# EAGLE library part 74HC245 (library arno)
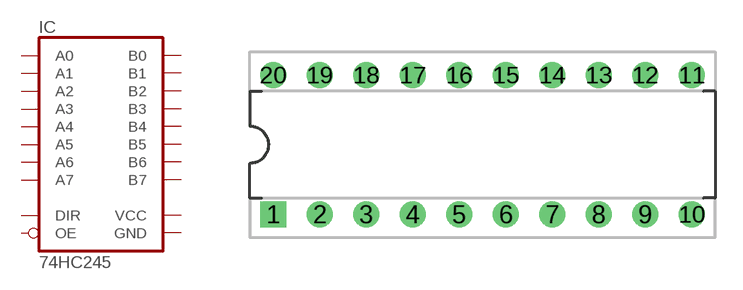
[diagram p9: symbol with the pads of SOCKET-DIL20; footprint SOCKET-DIL20]

Designator prefix IC

## 74HC245N  [SOCKET-DIL20]
1  DIR  in
2  A0
3  A1
4  A2
5  A3
6  A4
7  A5
8  A6
9  A7
10  GND
11  B7
12  B6
13  B5
14  B4
15  B3
16  B2
17  B1
18  B0
19  OE  in
20  VCC

## Footprint SOCKET-DIL20 (pad centres in mm)
DIL-20 Socket Based on DIL20 from 74xx-eu.lbr
drill 0.813 pad 1.422 square: 1 -11.43,-3.81
drill 0.813 pad 1.422: 2 -8.89,-3.81; 3 -6.35,-3.81; 4 -3.81,-3.81; 5 -1.27,-3.81; 6 1.27,-3.81; 7 3.81,-3.81; 8 6.35,-3.81; 9 8.89,-3.81; 10 11.43,-3.81; 11 11.43,3.81; 12 8.89,3.81; 13 6.35,3.81; 14 3.81,3.81; 15 1.27,3.81; 16 -1.27,3.81; 17 -3.81,3.81; 18 -6.35,3.81; 19 -8.89,3.81; 20 -11.43,3.81